# Altium schematic symbol library FiltersRF.SchLib: 4 symbols
Pins are listed as number, name and electrical type; pins without a type are passive.

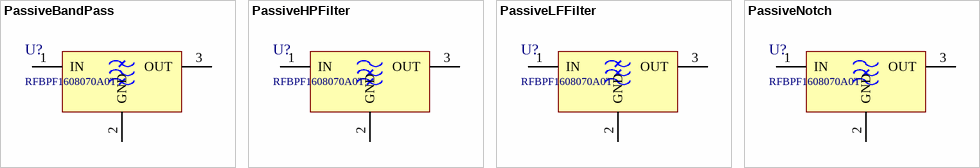
[diagram p0: symbols PassiveBandPass to PassiveNotch]

## PassiveBandPass
designator U?, comment RFBPF1608070A0T
MULTILAYER CERAMIC BAND PASS FILTER; Manufacturer: Walsin; Name: RFBPF1608070A0T
footprint RF_FILT_0603
pins: 1 IN, 2 GND, 3 OUT

## PassiveHPFilter
designator U?, comment RFBPF1608070A0T
MULTILAYER CERAMIC HIGH PASS FILTER; Manufacturer: Walsin; Name: RFBPF1608070A0T
footprint RF_FILT_0603
pins: 1 IN, 2 GND, 3 OUT

## PassiveLFFilter
designator U?, comment RFBPF1608070A0T
MULTILAYER CERAMIC LOW PASS FILTER; Manufacturer: Walsin; Name: RFBPF1608070A0T
footprint RF_FILT_0603
pins: 1 IN, 2 GND, 3 OUT

## PassiveNotch
designator U?, comment RFBPF1608070A0T
MULTILAYER CERAMIC NOTCH FILTER; Manufacturer: Walsin; Name: RFBPF1608070A0T
footprint RF_FILT_0603
pins: 1 IN, 2 GND, 3 OUT